# Altium schematic symbol library AM6T-1205SZ.SchLib: 1 symbol
Pins are listed as number, name and electrical type; pins without a type are passive.

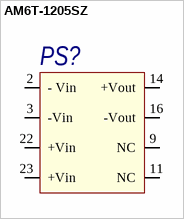
[diagram p0: symbol AM6T-1205SZ]

## AM6T-1205SZ
designator PS?  (value not drawn)
!!! Обязательно Впишите описание символа
footprint AM6T-1205SZ
pins: 2 - Vin, 3 -Vin, 9 NC, 11 NC, 14 +Vout, 16 -Vout, 22 +Vin, 23 +Vin